# Altium footprint library DIP254P1524X482-40.PcbLib: 1 footprints
Each footprint in its own frame and in the unit in brackets; x right, y up, seen from the top. Pads: shape width x height; smd on the part's side, far side on the other; paste and mask are expansions set on the pad; w line width, h text height; cw(c..) or ccw(c..) is an arc to the next point about the centre after c.
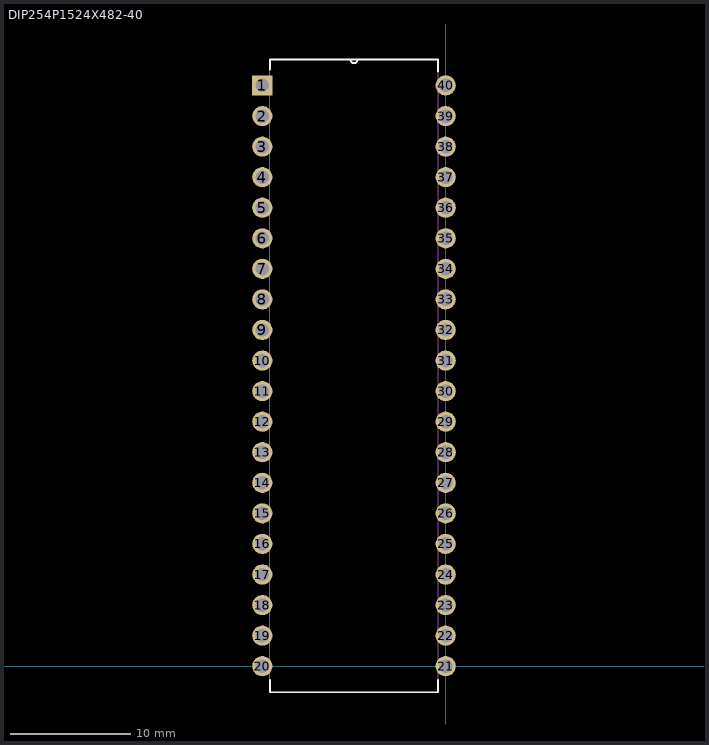
[diagram p0: the footprint, top view; thin cyan lines are the x and y axes]

## DIP254P1524X482-40 [mil]
pads (40):
  rect 66x66 / inner round 66 / far side rect 66x66 hole 44: 1(-600,1900)
  round 66 hole 44: 2(-600,1800) 3(-600,1700) 4(-600,1600) 5(-600,1500) 6(-600,1400) 7(-600,1300) 8(-600,1200) 9(-600,1100) 10(-600,1000) 11(-600,900) 12(-600,800) 13(-600,700) 14(-600,600) 15(-600,500) 16(-600,400) 17(-600,300) 18(-600,200) 19(-600,100) 20(-600,0) 21(0,0) 22(0,100) 23(0,200) 24(0,300) 25(0,400) 26(0,500) 27(0,600) 28(0,700) 29(0,800) 30(0,900) 31(0,1000) 32(0,1100) 33(0,1200) 34(0,1300) 35(0,1400) 36(0,1500) 37(0,1600) 38(0,1700) 39(0,1800) 40(0,1900)
Top Overlay:
  lines w6: -575,-45 -575,-85 -25,-85 -25,-45 ; -575,1952 -575,1985 -312,1985 ; -25,1945 -25,1985 -288,1985 ; -312,1985 ccw(c-300,1985) -288,1985 ; -312,1985 -288,1985
Mechanical 13:
  drawing of 167 lines, arcs and shapes, not listed
3D body "step_temp.STEP": height 190, standoff -140, extent -630,-75 20,1985